# EAGLE library part LIS2DE (library sensors)
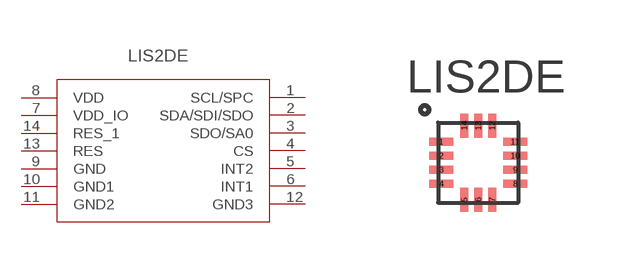
[diagram p3: symbol with the pads of LGA-14; footprint LGA-14]

Designator prefix -

## LIS2DE  [LGA-14]
1  SCL/SPC
2  SDA/SDI/SDO
3  SDO/SA0
4  CS
5  INT2
6  INT1
7  VDD_IO
8  VDD
9  GND
10  GND1
11  GND2
12  GND3
13  RES
14  RES_1

## Footprint LGA-14 (pad centres in mm)
smd 0.6 x 0.2: 1 -0.925,0.525; 2 -0.925,0.175; 3 -0.925,-0.175; 4 -0.925,-0.525; 8 0.925,-0.525; 9 0.925,-0.175; 10 0.925,0.175; 11 0.925,0.525
smd 0.2 x 0.6: 5 -0.35,-0.925; 6 0,-0.925; 7 0.35,-0.925; 12 0.35,0.925; 13 0,0.925; 14 -0.35,0.925